# Altium schematic symbol library Moduły.SchLib: 28 symbols
Pins are listed as number, name and electrical type; pins without a type are passive.

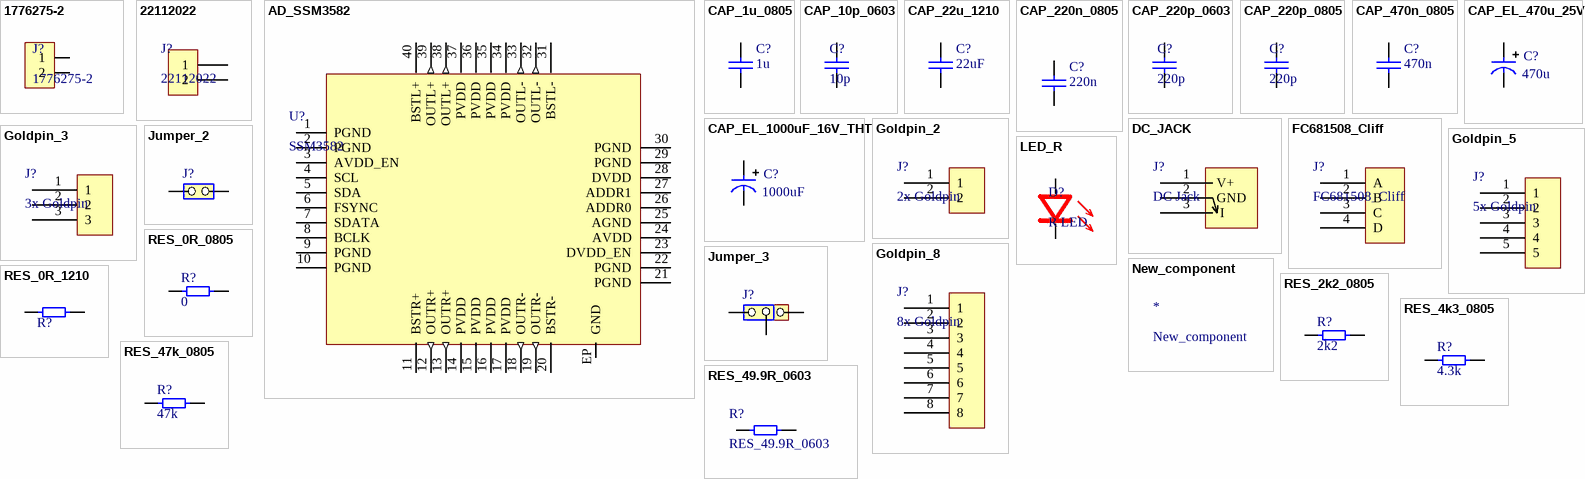
[diagram p0: symbols 1776275-2 to RES_49.9R_0603]

## 1776275-2
designator J?
1776275-2 Screw terminal 3.5mm; HelpURL: http://www.farnell.com/cad/2291290.pdf?_ga=2.72031187.1173766906.1498332400-516227586.1495631175; Supplier 1: Farnell; Supplier Part Number 1: 1098611
footprint 1776275-2 (1776275-2 Screw terminal)
pins: 1, 2

## 22112022
designator J?
KK® 254 Solid Header, Vertical, with Friction Lock, 2 Circuits, Gold (Au) Plating
footprint 22112022
pins: 1, 2

## AD_SSM3582
designator U?, comment SSM3582
Analog Devices D-Class Amplifier; HelpURL: http://www.farnell.com/datasheets/2059601.pdf?_ga=2.75449108.784207026.1498139323-516227586.1495631175; Supplier 1: Farnell; Supplier Part Number 1: 2576849; Supplier Part Number 2: SSM3582BCPZ; Supplier 2: Mouser
footprint LFCSP-40 (QFN, 40-Leads, Body 6,1x6,1mm (max), Pitch 0,50mm, IPC Medium Density)
pins: 1 PGND (power), 2 PGND (power), 3 AVDD_EN, 4 SCL, 5 SDA, 6 FSYNC, 7 SDATA, 8 BCLK, 9 PGND (power), 10 PGND (power), 11 BSTR+, 12 OUTR+ (out), 13 OUTR+ (out), 14 PVDD (power), 15 PVDD (power), 16 PVDD (power), 17 PVDD (power), 18 OUTR- (out), 19 OUTR- (out), 20 BSTR-, 21 PGND (power), 22 PGND (power), 23 DVDD_EN, 24 AVDD (power), 25 AGND (power), 26 ADDR0, 27 ADDR1, 28 DVDD (power), 29 PGND (power), 30 PGND (power), 31 BSTL-, 32 OUTL- (out), 33 OUTL- (out), 34 PVDD (power), 35 PVDD (power), 36 PVDD (power), 37 PVDD (power), 38 OUTL+ (out), 39 OUTL+ (out), 40 BSTL+, EP GND

## CAP_1u_0805
designator C?, comment 1u
Capacitor 0805 1u 20V; Value: 1u; Voltage Rating: 20V
footprint 0805-Capacitor (Chip Resistor, 2-Leads, Body 2,1x1,3mm, IPC Medium Density)
pins: 1, 2

## CAP_10p_0603
designator C?, comment 10p
Capacitor 0603 10p 20V; Value: 10p; Voltage Rating: 20V
footprint 0603-Capacitor (Chip Resistor, 2-Leads, Body 1,6x0,8mm, IPC Medium Density)
pins: 1, 2

## CAP_22u_1210
designator C?, comment 22uF
Capacitor 1210 22uF 16V; Value: 22uF; Voltage Rating: 16V
footprint 1210-Capacitor
pins: 1, 2

## CAP_220n_0805
designator C?, comment 220n
Capacitor 0805 220n 20V; Value: 220n; Voltage Rating: 20V
footprint 0805-Capacitor (Chip Resistor, 2-Leads, Body 2,1x1,3mm, IPC Medium Density)
pins: 1, 2

## CAP_220p_0603
designator C?, comment 220p
Capacitor 0603 220p 20V; Value: 220p; Voltage Rating: 20V
footprint 0603-Capacitor (Chip Resistor, 2-Leads, Body 1,6x0,8mm, IPC Medium Density)
pins: 1, 2

## CAP_220p_0805
designator C?, comment 220p
Capacitor 0805 220p 20V; Supplier 1: Farnell; Supplier Part Number 1: 1856450; Value: 220p; Voltage Rating: 20V
footprint 0805-Capacitor (Chip Resistor, 2-Leads, Body 2,1x1,3mm, IPC Medium Density)
pins: 1, 2

## CAP_470n_0805
designator C?, comment 470n
Capacitor 0805 470n 20V; Value: 470n; Voltage Rating: 20V
footprint 0805-Capacitor (Chip Resistor, 2-Leads, Body 2,1x1,3mm, IPC Medium Density)
pins: 1, 2

## CAP_EL_470u_25V
designator C?, comment 470u
Polymer Aluminium Capacitor, 470uF, 25V; Value: 470u; Voltage Rating: 25V; Supplier 1: Farnell; Supplier Part Number 1: 1539511
footprint PCR_10_12 (Aluminum Electrolytic Capacitor, Body 10,30x10,30x12,70mm, IPC Low Density)
pins: 1, 2

## CAP_EL_1000uF_16V_THT
designator C?, comment 1000uF
Polymer Aluminium Capacitor, 1000uF, 16V; Value: 1000uF; Voltage Rating: 16V; Supplier 1: TME; Supplier Part Number 1: UPW1C102MPD
footprint PCTHT_fi10h20 (Electrolytic capacitor fi10mm h20mm)
pins: 1, 2

## DC_JACK
designator J?, comment DC Jack
Standard 2.1 / 2.5 DC Jack connector; HelpURL: https://www.sparkfun.com/datasheets/Prototyping/Barrel-Connector-PJ-202A.pdf; Supplier Part Number 1: *; Supplier 1: *
footprint DC_JACK (DC JACK)
pins: 1  V+ (power), 2  GND (power), 3   I (power)

## FC681508_Cliff
designator J?
2x Speaker connector THT; HelpURL: http://www.tme.eu/pl/Document/1ecb80d74eb8194538e7ce66fc860ce6/FC681508.pdf; Supplier 1: TME; Supplier Part Number 1: FC681508
footprint FC681508 (2x Speaker terminal THT)
pins: 1 A, 2 B, 3 C, 4 D

## Goldpin_2
designator J?, comment 2x Goldpin
2x Goldpin 2.56mm
footprint 2x Goldpin (2x Goldpin 2.56mm)
pins: 1, 2

## Goldpin_3
designator J?, comment 3x Goldpin
3x Goldpin 2.56mm
footprint 3x Goldpin (3x Goldpin 2.56mm)
pins: 1, 2, 3

## Goldpin_5
designator J?, comment 5x Goldpin
5x Goldpin 2.56mm
footprint 5x Goldpin (5x Goldpin 2.56mm)
pins: 1, 2, 3, 4, 5

## Goldpin_8
designator J?, comment 8x Goldpin
8x Goldpin 2.56mm
footprint 8x Goldpin (8x Goldpin 2.56mm)
pins: 1, 2, 3, 4, 5, 6, 7, 8

## Jumper_2
designator J?  (no BOM)
2x 2.56mm jumper
footprint Jumper (2x 2.56mm jumper)
pins: 1 COMMON, 2 NO

## Jumper_3
designator J?  (no BOM)
3x 2.56mm jumper
footprint Jumper_3pin (3x 2.56mm jumper)
pins: 1, 2, 3

## LED_R
designator D?, comment R LED
Supplier 1: Farnell; Supplier Part Number 1: 2099221
footprint LED (SMD LED)
pins: A, C

## New_component
designator *

## RES_0R_0805
designator R?, comment 0
Resistor 0R 0805; Value: 0
footprint 0805-Resistor (Chip Resistor, 2-Leads, Body 2,1x1,3mm, IPC Medium Density)
pins: 1, 2

## RES_0R_1210
designator R?, comment 0  (value not drawn)
Resistor 0R 1210; Value: 0
footprint 1210-RESISTOR
pins: 1, 2

## RES_2k2_0805
designator R?, comment 2k2
Resistor 2k2 0805; Value: 2k2
footprint 0805-Resistor (Chip Resistor, 2-Leads, Body 2,1x1,3mm, IPC Medium Density)
pins: 1, 2

## RES_4k3_0805
designator R?, comment 4.3k
Resistor 4k3 0805; Value: 4.3k; Supplier 1: Farnell; Supplier Part Number 1: 2323848
footprint 0805-Resistor (Chip Resistor, 2-Leads, Body 2,1x1,3mm, IPC Medium Density)
pins: 1, 2

## RES_47k_0805
designator R?, comment 47k
Resistor 47k 0805; Value: 47k
footprint 0805-Resistor (Chip Resistor, 2-Leads, Body 2,1x1,3mm, IPC Medium Density)
pins: 1, 2

## RES_49.9R_0603
designator R?
Resistor 49.9R 0603; Value: 49.9R
footprint 0603-RESISTOR (Chip Resistor, 2-Leads, Body 1,6x0,8mm, IPC Medium Density)
pins: 1, 2